# Altium schematic symbol library Power Module 2.Schlib: 1 symbol
Pins are listed as number, name and electrical type; pins without a type are passive.

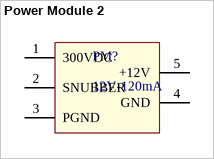
[diagram p0: symbol Power Module 2]

## Power Module 2
designator PM?, comment 12V-120mA
12V-120mA Power module
pins: 1 300VDC, 2 SNUBBER, 3 PGND, 4 GND, 5 +12V